# Altium footprint library EVALBRD.PcbLib: 11 footprints
Each footprint in its own frame and in the unit in brackets; x right, y up, seen from the top. Pads: shape width x height; smd on the part's side, far side on the other; paste and mask are expansions set on the pad; w line width, h text height; cw(c..) or ccw(c..) is an arc to the next point about the centre after c.
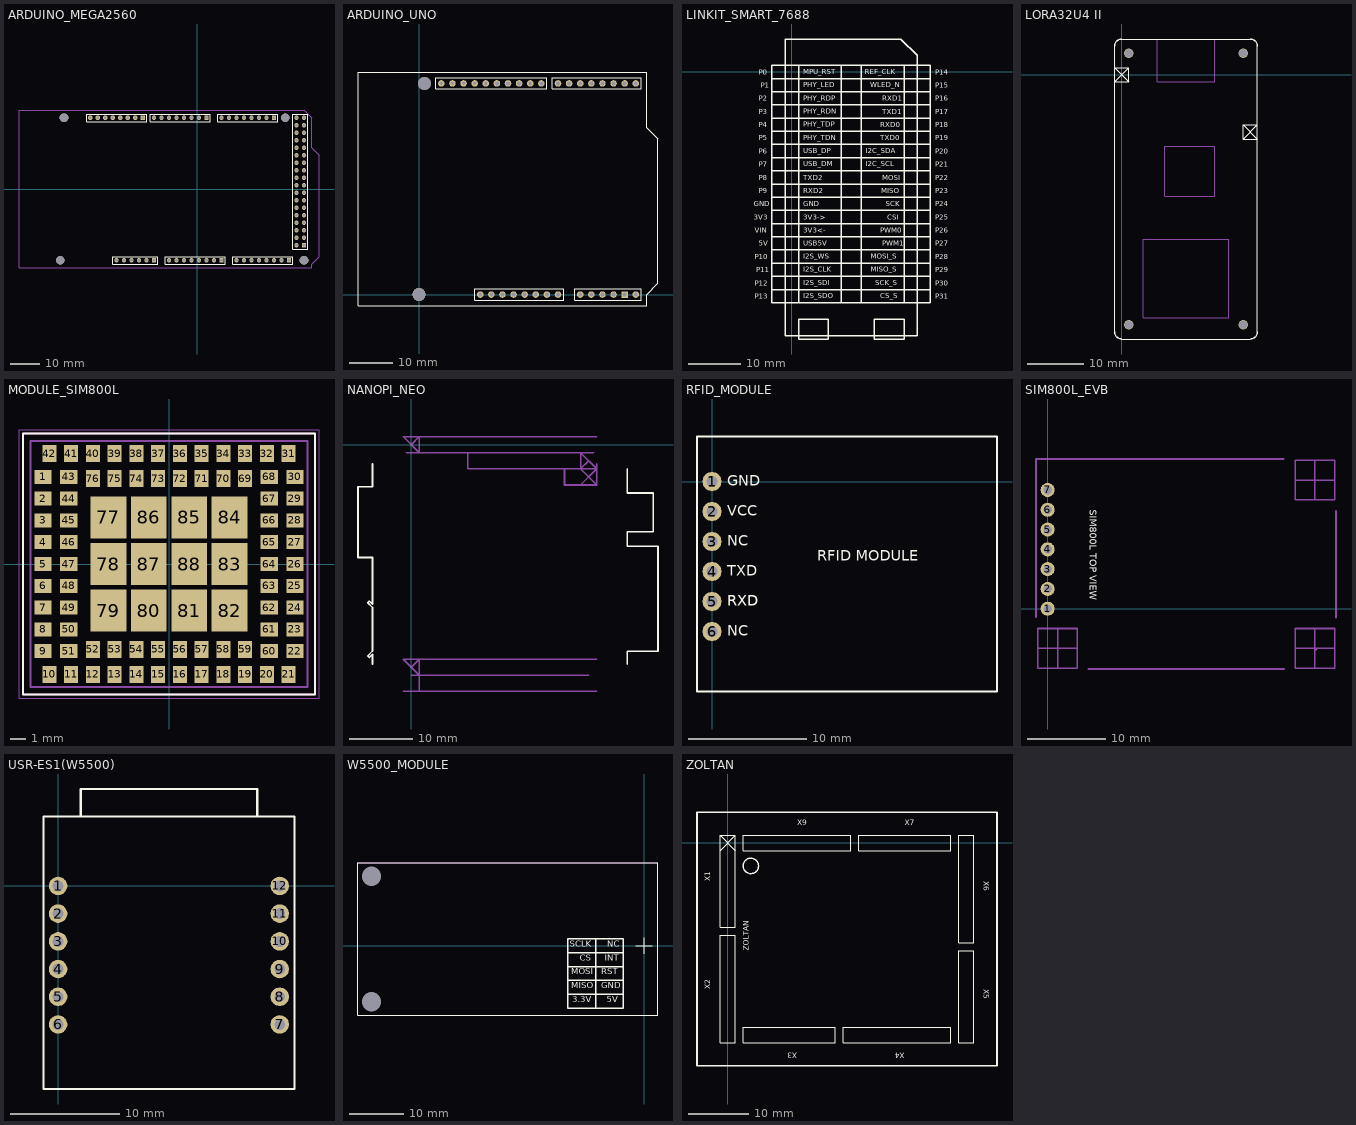
[diagram p0: the footprints below, top view; thin cyan lines are the x and y axes]

## ARDUINO_MEGA2560 [mm]
pads (82):
  rect 1.5x1.5 hole 0.9: 0(3.175,24.13) 8(-18.415,24.13) 21(26.035,24.13) 81(-14.605,-24.13) 90(36.195,-19.05) A7(8.255,-24.13) A15(31.115,-24.13)
  round 1.5 hole 0.9: 1(0.635,24.13) 2(-1.905,24.13) 3(-4.445,24.13) 4(-6.985,24.13) 5(-9.525,24.13) 6(-12.065,24.13) 7(-14.605,24.13) 9(-20.955,24.13) 10(-23.495,24.13) 11(-26.035,24.13) 12(-28.575,24.13) 13(-31.115,24.13) 14(8.255,24.13) 15(10.795,24.13) 16(13.335,24.13) 17(15.875,24.13) 18(18.415,24.13) 19(20.955,24.13) 20(23.495,24.13) 22(33.655,21.59) 23(36.195,21.59) 24(33.655,19.05) 25(36.195,19.05) 26(33.655,16.51) 27(36.195,16.51) 28(33.655,13.97) 29(36.195,13.97) 30(33.655,11.43) 31(36.195,11.43) 32(33.655,8.89) 33(36.195,8.89) 34(33.655,6.35) 35(36.195,6.35) 36(33.655,3.81) 37(36.195,3.81) 38(33.655,1.27) 39(36.195,1.27) 40(33.655,-1.27) 41(36.195,-1.27) 42(33.655,-3.81) 43(36.195,-3.81) 44(33.655,-6.35) 45(36.195,-6.35) 46(33.655,-8.89) 47(36.195,-8.89) 48(33.655,-11.43) 49(36.195,-11.43) 50(33.655,-13.97) 51(36.195,-13.97) 52(33.655,-16.51) 53(36.195,-16.51) 76(-33.655,24.13) 77(-36.195,24.13) 82(-17.145,-24.13) 83(-19.685,-24.13) 84(-22.225,-24.13) 85(-24.765,-24.13) 86(-27.305,-24.13) 87(33.655,24.13) 88(36.195,24.13) 89(33.655,-19.05) A0(-9.525,-24.13) A1(-6.985,-24.13) A2(-4.445,-24.13) A3(-1.905,-24.13) A4(0.635,-24.13) A5(3.175,-24.13) A6(5.715,-24.13) A8(13.335,-24.13) A9(15.875,-24.13) A10(18.415,-24.13) A11(20.955,-24.13) A12(23.495,-24.13) A13(26.035,-24.13) A14(28.575,-24.13)
via 36.195,-24.13 diameter 3 hole 3
via 29.845,24.13 diameter 3 hole 3
via -45.085,24.13 diameter 3 hole 3
via -46.355,-24.13 diameter 3 hole 3
Top Overlay:
  lines w0.2: -37.465,22.86 -17.145,22.86 -17.145,25.4 -37.465,25.4 -37.465,22.86 ; -28.575,-25.4 -28.575,-22.86 -13.335,-22.86 -13.335,-25.4 -28.575,-25.4 ; -15.875,22.86 4.445,22.86 4.445,25.4 -15.875,25.4 -15.875,22.86 ; -10.795,-25.4 9.525,-25.4 9.525,-22.86 -10.795,-22.86 -10.795,-25.4 ; 6.985,22.86 6.985,25.4 27.305,25.4 27.305,22.86 6.985,22.86 ; 12.065,-25.4 32.385,-25.4 32.385,-22.86 12.065,-22.86 12.065,-25.4 ; 32.385,-20.32 37.465,-20.32 37.465,25.4 32.385,25.4 32.385,-20.32
Board:
  lines w0.254: 38.735,13.96 41.275,11.42 41.275,-22.86 38.735,-25.4 38.735,-26.67 -58.685,-26.67 -60.325,-26.67 -60.325,-25.03 -60.325,26.67 36.195,26.67 38.735,24.13 38.735,13.97

## ARDUINO_UNO [mm]
pads (32):
  round 1.5 hole 0.9: 1(13.97,0) 2(16.51,0) 3(19.05,0) 4(21.59,0) 5(24.13,0) 6(26.67,0) 7(29.21,0) 8(31.75,0) 9(36.83,0) 10(39.37,0) 11(41.91,0) 12(44.45,0) 14(49.53,0) 15(49.53,48.26) 16(46.99,48.26) 17(44.45,48.26) 18(41.91,48.26) 19(39.37,48.26) 20(36.83,48.26) 21(34.29,48.26) 22(31.75,48.26) 23(27.94,48.26) 24(25.4,48.26) 25(22.86,48.26) 26(20.32,48.26) 27(17.78,48.26) 28(15.24,48.26)
  rect 1.5x1.5 hole 0.9: 13(46.99,0)
  round 1.5 hole 0.8: 29(12.7,48.26) 30(10.16,48.26) 31(7.62,48.26) 32(5.08,48.26)
via 1.27,48.26 diameter 3 hole 3
via 0,0 diameter 3 hole 3
Top Overlay:
  lines w0.2: -13.97,-2.54 -13.97,50.8 52.07,50.8 52.07,38.1 54.61,35.56 54.61,2.54 52.07,0 52.07,-2.54 -13.97,-2.54 ; 3.81,46.99 29.21,46.99 29.21,49.53 3.81,49.53 3.81,46.99 ; 12.7,-1.27 12.7,1.27 33.02,1.27 33.02,-1.27 12.7,-1.27 ; 30.48,46.99 50.8,46.99 50.8,49.53 30.48,49.53 30.48,46.99 ; 35.56,-1.27 50.8,-1.27 50.8,1.27 35.56,1.27 35.56,-1.27

## LINKIT_SMART_7688 [mm]
height 12
Top Overlay:
  drawing of 326 lines, arcs and shapes, not listed
  text "I2S_SDO" at 2.159,-43.597 h1
  text "I2S_SDI" at 2.159,-41.057 h1
  text "I2S_CLK" at 2.159,-38.517 h1
  text "I2S_WS" at 2.159,-35.977 h1
  text "USB5V" at 2.159,-33.52 h1
  text "3V3<-" at 2.159,-30.98 h1
  text "3V3->" at 2.159,-28.44 h1
  text "GND" at 2.159,-25.9 h1
  text "RXD2" at 2.159,-23.36 h1
  text "TXD2" at 2.159,-20.82 h1
  text "USB_DM" at 2.159,-18.197 h1
  text "USB_DP" at 2.159,-15.657 h1
  text "PHY_TDN" at 2.159,-13.117 h1
  text "PHY_TDP" at 2.159,-10.577 h1
  text "PHY_RDN" at 2.159,-8.037 h1
  text "PHY_RDP" at 2.159,-5.497 h1
  text "PHY_LED" at 2.159,-2.957 h1
  text "CS_S" at 17.036,-43.597 h1
  text "SCK_S" at 16.036,-41.057 h1
  text "MISO_S" at 15.203,-38.517 h1
  text "MOSI_S" at 15.203,-35.977 h1
  text "PWM1" at 17.369,-33.52 h1
  text "PWM0" at 17.036,-30.98 h1
  text "CSI" at 18.368,-28.44 h1
  text "SCK" at 18.035,-25.9 h1
  text "MISO" at 17.202,-23.36 h1
  text "MOSI" at 17.369,-20.82 h1
  text "I2C_SCL" at 14.203,-18.197 h1
  text "I2C_SDA" at 14.203,-15.657 h1
  text "TXD0" at 17.036,-13.2 h1
  text "RXD0" at 17.036,-10.66 h1
  text "TXD1" at 17.369,-8.12 h1
  text "RXD1" at 17.369,-5.58 h1
  text "WLED_N" at 15.036,-2.957 h1
  text "MPU_RST" at 2.159,-0.417 h1
  text "REF_CLK" at 14.036,-0.417 h1
  text "P0" at -6.365,-0.5 h1
  text "P1" at -6.032,-3.04 h1
  text "P2" at -6.365,-5.58 h1
  text "P3" at -6.365,-8.12 h1
  text "P4" at -6.365,-10.66 h1
  text "P5" at -6.365,-13.2 h1
  text "P6" at -6.365,-15.74 h1
  text "P7" at -6.365,-18.28 h1
  text "P8" at -6.365,-20.82 h1
  text "P9" at -6.365,-23.36 h1
  text "GND" at -7.365,-25.9 h1
  text "3V3" at -7.365,-28.44 h1
  text "VIN" at -7.198,-30.98 h1
  text "5V" at -6.365,-33.52 h1
  text "P10" at -7.198,-36.06 h1
  text "P11" at -6.865,-38.6 h1
  text "P12" at -7.198,-41.14 h1
  text "P13" at -7.198,-43.68 h1
  text "P14" at 27.559,-0.5 h1
  text "P15" at 27.559,-3.04 h1
  text "P16" at 27.559,-5.58 h1
  text "P17" at 27.559,-8.12 h1
  text "P18" at 27.559,-10.66 h1
  text "P19" at 27.559,-13.2 h1
  text "P20" at 27.559,-15.74 h1
  text "P21" at 27.559,-18.28 h1
  text "P22" at 27.559,-20.82 h1
  text "P23" at 27.559,-23.36 h1
  text "P24" at 27.559,-25.9 h1
  text "P25" at 27.559,-28.44 h1
  text "P26" at 27.559,-30.98 h1
  text "P27" at 27.559,-33.52 h1
  text "P28" at 27.559,-36.06 h1
  text "P29" at 27.559,-38.6 h1
  text "P30" at 27.559,-41.14 h1
  text "P31" at 27.559,-43.68 h1
Bottom Overlay:
  drawing of 216 lines, arcs and shapes, not listed
  text "USB_DM" at 7.824,-18.197 h1
  text "I2C_SCL" at 20.701,-18.197 h1
  text "USB5V" at 6.824,-33.52 h1
  text "PWM1" at 20.701,-33.52 h1
  text "MPU_RST" at 8.824,-0.417 h1
  text "REF_CLK" at 20.701,-0.417 h1
  text "PHY_RDN" at 8.824,-8.037 h1
  text "PHY_LED" at 8.824,-2.957 h1
  text "TXD1" at 20.701,-8.12 h1
  text "WLED_N" at 20.701,-2.957 h1
  text "PHY_TDN" at 8.824,-13.117 h1
  text "PHY_TDP" at 8.824,-10.577 h1
  text "TXD0" at 20.701,-13.2 h1
  text "RXD0" at 20.701,-10.66 h1
  text "RXD2" at 5.824,-23.36 h1
  text "TXD2" at 5.824,-20.82 h1
  text "MISO" at 20.701,-23.36 h1
  text "MOSI" at 20.701,-20.82 h1
  text "3V3<-" at 6.824,-30.98 h1
  text "3V3->" at 6.658,-28.44 h1
  text "PWM0" at 20.701,-30.98 h1
  text "CSI" at 20.701,-28.44 h1
  text "I2S_SDI" at 8.324,-41.057 h1
  text "I2S_CLK" at 8.657,-38.517 h1
  text "SCK_S" at 20.701,-41.057 h1
  text "MISO_S" at 20.701,-38.517 h1
  text "I2S_SDO" at 8.657,-43.597 h1
  text "CS_S" at 20.701,-43.597 h1
  text "PHY_RDP" at 8.824,-5.497 h1
  text "RXD1" at 20.701,-5.58 h1
  text "USB_DP" at 7.824,-15.657 h1
  text "I2C_SDA" at 20.701,-15.657 h1
  text "GND" at 4.825,-25.9 h1
  text "SCK" at 20.701,-25.9 h1
  text "I2S_WS" at 7.657,-35.977 h1
  text "MOSI_S" at 20.701,-35.977 h1
3D body: height 10.67, standoff 0, extent -0.635,-43.815 0.635,-42.545
3D body: height 10.67, standoff 0, extent -0.635,-41.275 0.635,-40.005
3D body: height 10.67, standoff 0, extent -0.635,-38.735 0.635,-37.465
3D body: height 10.67, standoff 0, extent -0.635,-36.195 0.635,-34.925
3D body: height 10.67, standoff 0, extent -0.635,-33.655 0.635,-32.385
3D body: height 10.67, standoff 0, extent -0.635,-31.115 0.635,-29.845
3D body: height 10.67, standoff 0, extent -0.635,-28.575 0.635,-27.305
3D body: height 10.67, standoff 0, extent -0.635,-26.035 0.635,-24.765
3D body: height 10.67, standoff 0, extent -0.635,-23.495 0.635,-22.225
3D body: height 10.67, standoff 0, extent -0.635,-20.955 0.635,-19.685
3D body: height 10.67, standoff 0, extent -0.635,-18.415 0.635,-17.145
3D body: height 10.67, standoff 0, extent -0.635,-15.875 0.635,-14.605
3D body: height 10.67, standoff 0, extent -0.635,-13.335 0.635,-12.065
3D body: height 10.67, standoff 0, extent -0.635,-10.795 0.635,-9.525
3D body: height 10.67, standoff 0, extent -0.635,-8.255 0.635,-6.985
3D body: height 10.67, standoff 0, extent -0.635,-5.715 0.635,-4.445
3D body: height 10.67, standoff 0, extent -0.635,-3.175 0.635,-1.905
3D body: height 10.67, standoff 0, extent -0.635,-0.635 0.635,0.635
3D body: height 10.67, standoff 0, extent 22.225,-43.815 23.495,-42.545
3D body: height 10.67, standoff 0, extent 22.225,-41.275 23.495,-40.005
3D body: height 10.67, standoff 0, extent 22.225,-38.735 23.495,-37.465
3D body: height 10.67, standoff 0, extent 22.225,-36.195 23.495,-34.925
3D body: height 10.67, standoff 0, extent 22.225,-33.655 23.495,-32.385
3D body: height 10.67, standoff 0, extent 22.225,-31.115 23.495,-29.845
3D body: height 10.67, standoff 0, extent 22.225,-28.575 23.495,-27.305
3D body: height 10.67, standoff 0, extent 22.225,-26.035 23.495,-24.765
3D body: height 10.67, standoff 0, extent 22.225,-23.495 23.495,-22.225
3D body: height 10.67, standoff 0, extent 22.225,-20.955 23.495,-19.685
3D body: height 10.67, standoff 0, extent 22.225,-18.415 23.495,-17.145
3D body: height 10.67, standoff 0, extent 22.225,-15.875 23.495,-14.605
3D body: height 10.67, standoff 0, extent 22.225,-13.335 23.495,-12.065
3D body: height 10.67, standoff 0, extent 22.225,-10.795 23.495,-9.525
3D body: height 10.67, standoff 0, extent 22.225,-8.255 23.495,-6.985
3D body: height 10.67, standoff 0, extent 22.225,-5.715 23.495,-4.445
3D body: height 10.67, standoff 0, extent 22.225,-3.175 23.495,-1.905
3D body: height 10.67, standoff 0, extent 22.225,-0.635 23.495,0.635
3D body: height 10, standoff 8, extent -1.27,-44.45 1.27,1.27
3D body: height 10, standoff 8, extent 21.59,-44.45 24.13,1.27
3D body: height 12, standoff 10, extent 1.905,-36.83 20.955,-3.81
3D body: height 12, standoff 10, extent 15.875,-51.435 21.59,-47.625
3D body: height 12, standoff 10, extent 1.27,-51.435 6.985,-47.625
3D body: height 11, standoff 9.5, extent -1.27,-50.8 24.13,6.35

## LORA32U4 II [mm]
via 21.59,-44.45 diameter 1.7 hole 1.5
via 1.27,-44.45 diameter 1.7 hole 1.5
via 21.59,3.81 diameter 1.7 hole 1.5
via 1.27,3.81 diameter 1.7 hole 1.5
Top Overlay:
  lines w0.2: -1.27,-45.72 -1.27,-39.37 -1.27,1.27 ; -1.27,5.08 -1.27,1.27 ; 0,-46.99 22.86,-46.99 ; 0,6.35 22.86,6.35 ; 24.13,-45.72 24.13,-39.37 24.13,-8.89 ; 24.13,5.08 24.13,-8.89 ; -1.27,1.27 1.27,-1.27 ; -1.27,1.27 1.27,1.27 ; 1.27,-1.27 1.27,1.27 ; 1.27,-1.27 -1.27,-1.27 1.27,1.27 ; 21.59,-11.43 24.13,-8.89 ; 21.59,-11.43 21.59,-8.89 ; 21.59,-11.43 24.13,-11.43 21.59,-8.89 ; 21.59,-8.89 24.13,-8.89
  lines w0.254: -1.27,-45.72 ccw(c0,-45.72) 0,-46.99 ; -1.27,5.08 cw(c0,5.08) 0,6.35 ; 22.86,-46.99 ccw(c22.86,-45.72) 24.13,-45.72 ; 22.86,6.35 cw(c22.86,5.08) 24.13,5.08
Assembly/Body:
  lines w0.2: 6.35,6.35 6.35,-1.27 16.51,-1.27 16.51,6.35 ; 3.81,-43.18 19.05,-43.18 19.05,-29.21 3.81,-29.21 3.81,-43.18 ; 7.62,-21.59 16.51,-21.59 16.51,-12.7 8.89,-12.7 7.62,-12.7 7.62,-21.59
3D body: height 14, standoff 3, extent 22.479,-38.481 23.241,-37.719
3D body: height 11.5, standoff 9, extent 21.59,-39.37 24.13,-36.83
3D body: height 14, standoff 3, extent 22.479,-35.941 23.241,-35.179
3D body: height 11.5, standoff 9, extent 21.59,-36.83 24.13,-34.29
3D body: height 14, standoff 3, extent 22.479,-33.401 23.241,-32.639
3D body: height 11.5, standoff 9, extent 21.59,-34.29 24.13,-31.75
3D body: height 14, standoff 3, extent 22.479,-30.861 23.241,-30.099
3D body: height 11.5, standoff 9, extent 21.59,-31.75 24.13,-29.21
3D body: height 14, standoff 3, extent 22.479,-28.321 23.241,-27.559
3D body: height 11.5, standoff 9, extent 21.59,-29.21 24.13,-26.67
3D body: height 14, standoff 3, extent 22.479,-25.781 23.241,-25.019
3D body: height 11.5, standoff 9, extent 21.59,-26.67 24.13,-24.13
3D body: height 14, standoff 3, extent 22.479,-23.241 23.241,-22.479
3D body: height 11.5, standoff 9, extent 21.59,-24.13 24.13,-21.59
3D body: height 14, standoff 3, extent 22.479,-20.701 23.241,-19.939
3D body: height 11.5, standoff 9, extent 21.59,-21.59 24.13,-19.05
3D body: height 14, standoff 3, extent 22.479,-18.161 23.241,-17.399
3D body: height 11.5, standoff 9, extent 21.59,-19.05 24.13,-16.51
3D body: height 14, standoff 3, extent 22.479,-15.621 23.241,-14.859
3D body: height 11.5, standoff 9, extent 21.59,-16.51 24.13,-13.97
3D body: height 14, standoff 3, extent 22.479,-13.081 23.241,-12.319
3D body: height 11.5, standoff 9, extent 21.59,-13.97 24.13,-11.43
3D body: height 14, standoff 3, extent 22.479,-10.541 23.241,-9.779
3D body: height 11.5, standoff 9, extent 21.59,-11.43 24.13,-8.89
3D body: height 14, standoff 3, extent -0.381,-38.481 0.381,-37.719
3D body: height 11.5, standoff 9, extent -1.27,-39.37 1.27,-36.83
3D body: height 14, standoff 3, extent -0.381,-35.941 0.381,-35.179
3D body: height 11.5, standoff 9, extent -1.27,-36.83 1.27,-34.29
3D body: height 14, standoff 3, extent -0.381,-33.401 0.381,-32.639
3D body: height 11.5, standoff 9, extent -1.27,-34.29 1.27,-31.75
3D body: height 14, standoff 3, extent -0.381,-30.861 0.381,-30.099
3D body: height 11.5, standoff 9, extent -1.27,-31.75 1.27,-29.21
3D body: height 14, standoff 3, extent -0.381,-28.321 0.381,-27.559
3D body: height 11.5, standoff 9, extent -1.27,-29.21 1.27,-26.67
3D body: height 14, standoff 3, extent -0.381,-25.781 0.381,-25.019
3D body: height 11.5, standoff 9, extent -1.27,-26.67 1.27,-24.13
3D body: height 14, standoff 3, extent -0.381,-23.241 0.381,-22.479
3D body: height 11.5, standoff 9, extent -1.27,-24.13 1.27,-21.59
3D body: height 14, standoff 3, extent -0.381,-20.701 0.381,-19.939
3D body: height 11.5, standoff 9, extent -1.27,-21.59 1.27,-19.05
3D body: height 14, standoff 3, extent -0.381,-18.161 0.381,-17.399
3D body: height 11.5, standoff 9, extent -1.27,-19.05 1.27,-16.51
3D body: height 14, standoff 3, extent -0.381,-15.621 0.381,-14.859
3D body: height 11.5, standoff 9, extent -1.27,-16.51 1.27,-13.97
3D body: height 14, standoff 3, extent -0.381,-13.081 0.381,-12.319
3D body: height 11.5, standoff 9, extent -1.27,-13.97 1.27,-11.43
3D body: height 14, standoff 3, extent -0.381,-10.541 0.381,-9.779
3D body: height 11.5, standoff 9, extent -1.27,-11.43 1.27,-8.89
3D body: height 14, standoff 3, extent -0.381,-8.001 0.381,-7.239
3D body: height 11.5, standoff 9, extent -1.27,-8.89 1.27,-6.35
3D body: height 14, standoff 3, extent -0.381,-5.461 0.381,-4.699
3D body: height 11.5, standoff 9, extent -1.27,-6.35 1.27,-3.81
3D body: height 14, standoff 3, extent -0.381,-2.921 0.381,-2.159
3D body: height 11.5, standoff 9, extent -1.27,-3.81 1.27,-1.27
3D body: height 14, standoff 3, extent -0.381,-0.381 0.381,0.381
3D body: height 11.5, standoff 9, extent -1.27,-1.27 1.27,1.27
3D body: height 16.5, standoff 13.5, extent 3.81,-43.18 19.05,-29.21
3D body: height 19.5, standoff 13.5, extent 18.288,-6.35 24.13,1.27
3D body: height 13.5, standoff 11.5, extent -1.27,-46.99 24.13,6.35
3D body: height 16.5, standoff 13.5, extent 6.985,-1.27 15.875,7.62

## MODULE_SIM800L [mm]
pads (88):
  rect 1.1x0.9 smd: 1(-8.1,5.6) 2(-8.1,4.2) 3(-8.1,2.8) 4(-8.1,1.4) 5(-8.1,0) 6(-8.1,-1.4) 7(-8.1,-2.8) 8(-8.1,-4.2) 9(-8.1,-5.6) 22(8.1,-5.6) 23(8.1,-4.2) 24(8.1,-2.8) 25(8.1,-1.4) 26(8.1,0) 27(8.1,1.4) 28(8.1,2.8) 29(8.1,4.2) 30(8.1,5.6) 43(-6.45,5.6) 44(-6.45,4.2) 45(-6.45,2.8) 46(-6.45,1.4) 47(-6.45,0) 48(-6.45,-1.4) 49(-6.45,-2.8) 50(-6.45,-4.2) 51(-6.45,-5.6) 60(6.45,-5.6) 61(6.45,-4.2) 62(6.45,-2.8) 63(6.45,-1.4) 64(6.45,0) 65(6.45,1.4) 66(6.45,2.8) 67(6.45,4.2) 68(6.45,5.6)
  rect 0.9x1.1 smd: 10(-7.7,-7.1) 11(-6.3,-7.1) 12(-4.9,-7.1) 13(-3.5,-7.1) 14(-2.1,-7.1) 15(-0.7,-7.1) 16(0.7,-7.1) 17(2.1,-7.1) 18(3.5,-7.1) 19(4.9,-7.1) 20(6.3,-7.1) 21(7.7,-7.1) 31(7.7,7.1) 32(6.3,7.1) 33(4.9,7.1) 34(3.5,7.1) 35(2.1,7.1) 36(0.7,7.1) 37(-0.7,7.1) 38(-2.1,7.1) 39(-3.5,7.1) 40(-4.9,7.1) 41(-6.3,7.1) 42(-7.7,7.1) 52(-4.9,-5.5) 53(-3.5,-5.5) 54(-2.1,-5.5) 55(-0.7,-5.5) 56(0.7,-5.5) 57(2.1,-5.5) 58(3.5,-5.5) 59(4.9,-5.5) 69(4.9,5.5) 70(3.5,5.5) 71(2.1,5.5) 72(0.7,5.5) 73(-0.7,5.5) 74(-2.1,5.5) 75(-3.5,5.5) 76(-4.9,5.5)
  rect 2.3x2.7 smd: 77(-3.9,3) 78(-3.9,0) 79(-3.9,-3) 80(-1.3,-3) 81(1.3,-3) 82(3.9,-3) 83(3.9,0) 84(3.9,3) 85(1.3,3) 86(-1.3,3) 87(-1.3,0) 88(1.3,0)
Top Overlay:
  lines w0.127: -9.4,-8.4 -9.4,8.4 9.4,8.4 9.4,-8.4 -9.4,-8.4
Assembly/Body:
  lines w0.127: -9.4,-8.4 -9.4,8.4 9.4,8.4 9.4,-8.4 -9.4,-8.4 ; -8.9,-7.9 8.9,-7.9 8.9,7.9 -8.9,7.9 -8.9,-7.9
Coutyard:
  lines w0.05: -9.65,-8.65 9.65,-8.65 9.65,8.65 -9.65,8.65 -9.65,-8.65

## NANOPI_NEO [mm]
Top Overlay:
  lines w0.254: -6.096,-34.544 -6.096,-33.02 -6.604,-33.528 -6.858,-33.274 -6.096,-32.512 -6.096,-25.654 -6.858,-24.892 -6.604,-24.638 -6.096,-25.146 -6.096,-17.78 -8.382,-17.78 -8.382,-6.604 -6.096,-6.604 -6.096,-3.048 ; 34.036,-34.544 34.036,-32.512 38.862,-32.512 38.862,-16.002 34.036,-16.002 34.036,-13.716 38.1,-13.716 38.1,-7.62 34.036,-7.62 34.036,-3.81
Assembly/Body:
  lines w0.254: -1.27,-38.862 1.27,-38.862 ; -0.762,-1.27 26.67,-1.27 ; 0,-36.322 1.27,-36.322 ; 0,-35.052 1.27,-33.782 ; 0,0 1.27,1.27 1.27,-1.27 -1.27,1.27 29.21,1.27 ; 8.89,-1.27 8.89,-3.81 24.13,-3.81 ; 26.67,-6.35 29.21,-3.81 ; 27.94,-36.322 1.27,-36.322 ; 27.94,-2.54 26.67,-3.81 ; 28.702,-1.27 26.67,-1.27 ; 29.21,-38.862 3.81,-38.862 1.27,-38.862 ; 29.21,-33.782 1.27,-33.782 ; 29.21,-3.048 29.21,-3.81 ; 1.27,-38.862 1.27,-36.322 ; 1.27,-36.322 -1.27,-33.782 1.27,-33.782 ; 1.27,-36.322 1.27,-33.782 ; 24.13,-3.81 29.21,-3.81 ; 24.13,-3.81 24.13,-6.35 29.21,-6.35 ; 26.67,-3.81 29.21,-6.35 ; 26.67,-3.81 26.67,-1.27 ; 26.67,-1.27 29.21,-3.81 ; 29.21,-6.35 29.21,-3.81
  text "GND" at 23.864,-33.02 h1.5
  text "TX" at 8.624,-33.02 h1.5
  text "PG9" at 21.324,-33.02 h1.5
  text "PG8" at 18.784,-33.02 h1.5
  text "PA6" at 13.704,-33.02 h1.5
  text "RX" at 11.164,-33.02 h1.5
  text "5VIN" at 3.544,-33.02 h1.5
  text "5VIN" at 1.004,-33.02 h1.5
  text "GND" at 16.244,-33.02 h1.5
  text "GND" at 6.084,-33.02 h1.5
  text "RX" at 26.404,-33.02 h1.5
  text "CS" at 28.944,-33.02 h1.5
  text "PG11" at 8.624,-44.626 h1.5
  text "MOSI" at 23.864,-45.126 h1.5
  text "CLK" at 28.944,-43.877 h1.5
  text "PA3" at 18.784,-45.126 h1.5
  text "3.3V" at 21.324,-45.815 h1.5
  text "GND" at 11.164,-43.877 h1.5
  text "TX" at 13.704,-43.877 h1.5
  text "3.3V" at 1.004,-45.126 h1.5
  text "SDA" at 3.544,-43.877 h1.5
  text "MISO" at 26.404,-45.126 h1.5
  text "PA2" at 16.244,-43.877 h1.5
  text "SCL" at 6.084,-44.626 h1.5
  text "U2/D+" at 8.624,2.54 h1.5
  text "DOUT" at 23.864,2.54 h1.5
  text "5VOUT" at 1.504,2.54 h1.5
  text "LRCK" at 18.784,2.54 h1.5
  text "BCK" at 21.324,2.54 h1.5
  text "U2/D-" at 11.164,2.54 h1.5
  text "IR" at 13.704,2.54 h1.5
  text "U1/D+" at 3.544,2.54 h1.5
  text "GND" at 28.944,2.54 h1.5
  text "DIN" at 26.404,2.54 h1.5
  text "SPDIF" at 16.244,2.54 h1.5
  text "U1/D-" at 6.084,2.54 h1.5
  text "GND" at 34.024,-15.24 h1.5
  text "GND" at 28.944,-11.43 h1.5
  text "CVBS" at 31.484,-15.24 h1.5
  text "5V" at 26.404,-10.16 h1.5
  text "TX" at 23.864,-7.62 h1.5
  text "RX" at 21.324,-7.62 h1.5
  text "LL" at 18.784,-7.62 h1.5
  text "LR" at 16.244,-7.62 h1.5
  text "MN" at 13.704,-7.62 h1.5
  text "MP" at 11.164,-7.62 h1.5
3D body: height 11, standoff 9, extent -6.096,-38.862 34.036,1.27
3D body: height 9, standoff 0, extent 17.272,-32.512 38.862,-16.256
3D body: height 9, standoff 0, extent 23.876,-13.716 38.1,-7.62
3D body: height 9, standoff 6, extent -6.096,-18.542 7.62,-4.318

## RFID_MODULE [mm]
pads (6):
  round 1.61 hole 0.91: 1(0,0) 2(0,-2.54) 3(0,-5.08) 4(0,-7.62) 5(0,-10.16) 6(0,-12.7)
Top Overlay:
  lines w0.2: -1.27,-17.78 24.13,-17.78 24.13,3.81 -1.27,3.81 -1.27,-17.78
  text "GND" at 1.27,-0.635 h1.52
  text "VCC" at 1.27,-3.175 h1.52
  text "NC" at 1.27,-5.715 h1.52
  text "TXD" at 1.27,-8.255 h1.52
  text "RXD" at 1.27,-10.795 h1.52
  text "RXD" at 1.27,-10.795 h1.52
  text "NC" at 1.27,-13.335 h1.52
  text "RFID MODULE" at 8.89,-6.985 h1.52

## SIM800L_EVB [mm]
height 15
pads (7):
  round 1.8 hole 1.1: 1(0,0) 2(0,2.54) 3(0,5.08) 4(0,7.62) 5(0,10.16) 6(0,12.7) 7(0,15.24)
Top Overlay:
  text "SIM800L TOP VIEW" at 5.084,12.7 h1.52
Assembly/Body:
  lines w0.2: -1.27,-5.08 3.81,-5.08 ; 1.27,-7.62 1.27,-2.54 ; 31.75,-5.08 36.83,-5.08 ; 31.75,16.51 36.83,16.51 ; 34.29,-7.62 34.29,-5.08 ; 34.29,13.97 34.29,19.05 ; 34.5,-5.26 34.29,-5.26 34.29,-2.54 ; 34.29,-2.54 31.75,-2.54 31.75,-7.62 36.83,-7.62 36.83,-2.54 34.29,-2.54 ; -1.27,-7.62 -1.27,-2.54 3.81,-2.54 3.81,-7.62 -1.27,-7.62 ; 31.75,13.97 36.83,13.97 36.83,19.05 31.75,19.05 31.75,13.97
  lines w0.254: -1.5,-1.04 -1.5,19.24 30.29,19.24 ; 5.22,-7.76 30.34,-7.76 ; 37,-1.1 37,12.53
  text "GND" at 1.905,12.065 h1.52
  text "RXD" at 1.905,9.525 h1.52
  text "GND" at 1.905,1.905 h1.52
  text "5V" at 1.905,-0.635 h1.52
  text "RST" at 1.905,14.609 h1.52
  text "TXD" at 1.905,6.985 h1.52
  text "VDD" at 1.905,4.445 h1.52
3D body: height 20, standoff 18, extent 22.86,-6.35 27.94,-1.27
3D body: height 10.67, standoff 0, extent -1.27,19.05 -1.27,19.05
3D body: height 18, standoff 16.5, extent -1.27,-7.62 36.83,19.05
3D body: height 20, standoff 18, extent 12.7,0 28.575,15.875

## USR-ES1(W5500) [mm]
height 16.5
pads (12):
  round 1.7 hole 1: 1(0,0) 2(0,-2.54) 3(0,-5.08) 4(0,-7.62) 5(0,-10.16) 6(0,-12.7) 7(20.32,-12.7) 8(20.32,-10.16) 9(20.32,-7.62) 10(20.32,-5.08) 11(20.32,-2.54) 12(20.32,0)
Top Overlay:
  lines w0.2: 18.263,6.375 18.263,8.89 2.083,8.89 2.083,6.381 -1.33,6.381 ; 21.666,6.375 21.666,-18.618 ; -1.33,-18.618 -1.33,6.381 ; -1.33,-18.618 21.666,-18.618 ; -1.33,-18.618 -1.33,6.381 ; -1.33,-18.618 21.666,-18.618 ; -1.33,6.381 21.666,6.381 21.666,-18.618
3D body: height 3.5, standoff 2, extent -1.321,-18.618 21.641,6.375
3D body: height 2, standoff 0, extent -1.27,-13.97 1.27,-11.43
3D body: height 2, standoff 0, extent -1.27,-11.43 1.27,-8.89
3D body: height 2, standoff 0, extent -1.27,-8.89 1.27,-6.35
3D body: height 2, standoff 0, extent -1.27,-6.35 1.27,-3.81
3D body: height 2, standoff 0, extent -1.27,-3.81 1.27,-1.27
3D body: height 2, standoff 0, extent -1.27,-1.27 1.27,1.27
3D body: height 2, standoff 0, extent 19.05,-1.27 21.59,1.27
3D body: height 2, standoff 0, extent 19.05,-3.81 21.59,-1.27
3D body: height 2, standoff 0, extent 19.05,-6.35 21.59,-3.81
3D body: height 2, standoff 0, extent 19.05,-8.89 21.59,-6.35
3D body: height 2, standoff 0, extent 19.05,-11.43 21.59,-8.89
3D body: height 2, standoff 0, extent 19.05,-13.97 21.59,-11.43
3D body: height 16.5, standoff 3.5, extent 2.108,-16.154 18.263,8.865

## W5500_MODULE [mm]
pads (2):
  round 1 hole 3.5 unplated: 1000(-49.96,-10.26) 1000(-49.96,12.74)
Top Overlay:
  lines w0.2: -1.5,0 1.5,0 ; 0,-1.5 0,1.5 ; -52.46,-12.76 2.54,-12.76 2.54,15.24 -52.46,15.24 -52.46,-12.76
  lines w0.254: -13.97,-8.89 -3.81,-8.89 ; -13.97,-6.35 -3.81,-6.35 ; -13.97,-3.81 -3.81,-3.81 ; -13.97,-1.27 -3.81,-1.27 ; -8.89,-11.43 -13.97,-11.43 -13.97,1.27 -4.572,1.27 ; -8.89,-11.43 -3.81,-11.43 -3.81,1.27 -4.572,1.27 ; -8.89,-11.43 -8.89,1.27 -4.572,1.27
  text "NC" at -6.774,-0.625 h2
  text "INT" at -7.204,-3.165 h2
  text "GND" at -7.83,-8.245 h2
  text "5V" at -6.828,-10.785 h2
  text "SCLK" at -13.661,-0.622 h2
  text "MISO" at -13.408,-8.244 h2
  text "CS" at -11.789,-3.162 h2
  text "3.3V" at -13.162,-10.785 h2
  text "RST" at -7.83,-5.702 h2
  text "MOSI" at -13.408,-5.704 h2
Assembly/Body:
  lines w0.2: -52.46,-12.76 2.54,-12.76 2.54,15.24 -52.46,15.24 -52.46,-12.76
3D body: height 12, standoff 10, extent -3.81,-11.43 -1.27,-8.89
3D body: height 15.5, standoff 3.5, extent -2.921,-10.541 -2.159,-9.779
3D body: height 12, standoff 10, extent -1.27,-11.43 1.27,-8.89
3D body: height 15.5, standoff 3.5, extent -0.381,-10.541 0.381,-9.779
3D body: height 12, standoff 10, extent -1.27,-8.89 1.27,-6.35
3D body: height 15.5, standoff 3.5, extent -0.381,-8.001 0.381,-7.239
3D body: height 12, standoff 10, extent -3.81,-8.89 -1.27,-6.35
3D body: height 15.5, standoff 3.5, extent -2.921,-8.001 -2.159,-7.239
3D body: height 12, standoff 10, extent -3.81,-6.35 -1.27,-3.81
3D body: height 15.5, standoff 3.5, extent -2.921,-5.461 -2.159,-4.699
3D body: height 12, standoff 10, extent -1.27,-6.35 1.27,-3.81
3D body: height 15.5, standoff 3.5, extent -0.381,-5.461 0.381,-4.699
3D body: height 12, standoff 10, extent -1.27,-3.81 1.27,-1.27
3D body: height 15.5, standoff 3.5, extent -0.381,-2.921 0.381,-2.159
3D body: height 12, standoff 10, extent -3.81,-3.81 -1.27,-1.27
3D body: height 15.5, standoff 3.5, extent -2.921,-2.921 -2.159,-2.159
3D body: height 12, standoff 10, extent -3.81,-1.27 -1.27,1.27
3D body: height 15.5, standoff 3.5, extent -2.921,-0.381 -2.159,0.381
3D body: height 12, standoff 10, extent -1.27,-1.27 1.27,1.27
3D body: height 15.5, standoff 3.5, extent -0.381,-0.381 0.381,0.381
3D body: height 13.5, standoff 12, extent -52.46,-12.633 2.54,15.367
3D body: height 13, standoff 0.5, extent -59.96,-6.76 -31.46,9.24

## ZOLTAN [mm]
Top Overlay:
  circle w0.254: c3.81,-3.81 r1.27
  lines w0.2: -1.27,-1.27 1.27,1.27 ; 1.27,-1.27 -1.27,1.27 ; -1.27,1.27 -1.27,-13.97 1.27,-13.97 1.27,1.27 ; -1.27,1.27 1.27,1.27 ; -1.27,-33.02 -1.27,-15.24 1.27,-15.24 1.27,-33.02 -1.27,-33.02 ; 2.54,-33.02 2.54,-30.48 17.78,-30.48 17.78,-33.02 2.54,-33.02 ; 2.54,-1.27 2.54,1.27 20.32,1.27 20.32,-1.27 2.54,-1.27 ; 19.05,-33.02 19.05,-30.48 36.83,-30.48 36.83,-33.02 19.05,-33.02 ; 21.59,-1.27 36.83,-1.27 36.83,1.27 21.59,1.27 21.59,-1.27 ; 38.1,-33.02 38.1,-17.78 40.64,-17.78 40.64,-33.02 38.1,-33.02 ; 38.1,-16.51 38.1,1.27 40.64,1.27 40.64,-16.51 38.1,-16.51
  lines w0.254: -5.08,-36.83 44.45,-36.83 44.45,5.08 -5.08,5.08 -5.08,-36.83
  text "ZOLTAN" at 3.81,-17.78 h1.52
  text "X1" at -2.54,-6.35 h1.52
  text "X2" at -2.54,-24.13 h1.52
  text "X3" at 11.43,-34.29 h1.52
  text "X4" at 29.21,-34.29 h1.52
  text "X5" at 41.91,-24.13 h1.52
  text "X6" at 41.91,-6.35 h1.52
  text "X7" at 29.21,2.54 h1.52
  text "X9" at 11.43,2.54 h1.52
3D body: height 10, standoff 9, extent -5.08,-36.83 44.45,5.08
3D body: height 10.8, standoff 9.2, extent -0.8,-0.797 0.8,0.797
3D body: height 10.8, standoff 9.2, extent -0.8,-3.337 0.8,-1.743
3D body: height 10.8, standoff 9.2, extent -0.8,-5.877 0.8,-4.283
3D body: height 10.8, standoff 9.2, extent -0.8,-8.417 0.8,-6.823
3D body: height 10.8, standoff 9.2, extent -0.8,-10.957 0.8,-9.363
3D body: height 10.8, standoff 9.2, extent -0.8,-13.497 0.8,-11.903
3D body: height 10.8, standoff 9.2, extent -0.8,-17.307 0.8,-15.713
3D body: height 10.8, standoff 9.2, extent -0.8,-19.847 0.8,-18.253
3D body: height 10.8, standoff 9.2, extent -0.8,-22.387 0.8,-20.793
3D body: height 10.8, standoff 9.2, extent -0.8,-24.927 0.8,-23.333
3D body: height 10.8, standoff 9.2, extent -0.8,-27.467 0.8,-25.873
3D body: height 10.8, standoff 9.2, extent -0.8,-30.007 0.8,-28.413
3D body: height 10.8, standoff 9.2, extent -0.8,-32.547 0.8,-30.953
3D body: height 10.8, standoff 9.2, extent 3.01,-32.547 4.61,-30.953
3D body: height 10.8, standoff 9.2, extent 5.55,-32.547 7.15,-30.953
3D body: height 10.8, standoff 9.2, extent 8.09,-32.547 9.69,-30.953
3D body: height 10.8, standoff 9.2, extent 10.63,-32.547 12.23,-30.953
3D body: height 10.8, standoff 9.2, extent 13.17,-32.547 14.77,-30.953
3D body: height 10.8, standoff 9.2, extent 15.71,-32.547 17.31,-30.953
3D body: height 10.8, standoff 9.2, extent 19.52,-32.547 21.12,-30.953
3D body: height 10.8, standoff 9.2, extent 22.06,-32.547 23.66,-30.953
3D body: height 10.8, standoff 9.2, extent 24.6,-32.547 26.2,-30.953
3D body: height 10.8, standoff 9.2, extent 27.14,-32.547 28.74,-30.953
3D body: height 10.8, standoff 9.2, extent 29.68,-32.547 31.28,-30.953
3D body: height 10.8, standoff 9.2, extent 32.22,-32.547 33.82,-30.953
3D body: height 10.8, standoff 9.2, extent 34.76,-32.547 36.36,-30.953
3D body: height 10.8, standoff 9.2, extent 38.57,-32.547 40.17,-30.953
3D body: height 10.8, standoff 9.2, extent 38.57,-30.007 40.17,-28.413
3D body: height 10.8, standoff 9.2, extent 38.57,-27.467 40.17,-25.873
3D body: height 10.8, standoff 9.2, extent 38.57,-24.927 40.17,-23.333
3D body: height 10.8, standoff 9.2, extent 38.57,-22.387 40.17,-20.793
3D body: height 10.8, standoff 9.2, extent 38.57,-19.847 40.17,-18.253
3D body: height 10.8, standoff 9.2, extent 38.57,-16.037 40.17,-14.443
3D body: height 10.8, standoff 9.2, extent 38.57,-13.497 40.17,-11.903
3D body: height 10.8, standoff 9.2, extent 38.57,-10.957 40.17,-9.363
3D body: height 10.8, standoff 9.2, extent 38.57,-8.417 40.17,-6.823
3D body: height 10.8, standoff 9.2, extent 38.57,-5.877 40.17,-4.283
3D body: height 10.8, standoff 9.2, extent 38.57,-3.337 40.17,-1.743
3D body: height 10.8, standoff 9.2, extent 38.57,-0.797 40.17,0.797
3D body: height 10.8, standoff 9.2, extent 34.76,-0.797 36.36,0.797
3D body: height 10.8, standoff 9.2, extent 32.22,-0.797 33.82,0.797
3D body: height 10.8, standoff 9.2, extent 29.68,-0.797 31.28,0.797
3D body: height 10.8, standoff 9.2, extent 27.14,-0.797 28.74,0.797
3D body: height 10.8, standoff 9.2, extent 24.6,-0.797 26.2,0.797
3D body: height 10.8, standoff 9.2, extent 22.06,-0.797 23.66,0.797
3D body: height 10.8, standoff 9.2, extent 18.25,-0.797 19.85,0.797
3D body: height 10.8, standoff 9.2, extent 15.71,-0.797 17.31,0.797
3D body: height 10.8, standoff 9.2, extent 13.17,-0.797 14.77,0.797
3D body: height 10.8, standoff 9.2, extent 10.63,-0.797 12.23,0.797
3D body: height 10.8, standoff 9.2, extent 8.09,-0.797 9.69,0.797
3D body: height 10.8, standoff 9.2, extent 5.55,-0.797 7.15,0.797
3D body: height 10.8, standoff 9.2, extent 3.01,-0.797 4.61,0.797